# EAGLE library part UWE-* (library LM555-SHAYAN-NOORANI)
UWE-Q12 Series Wide Input, Isolated Eighth-Brick DCDC Converters Datasheet <https://www.mouser.com/datasheet/2/281/uwe_q12-1919447.pdf>
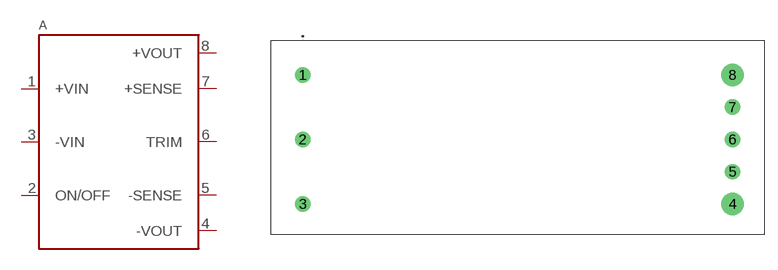
[diagram p43: symbol with the pads of UWE-*; footprint UWE-*]

Designator prefix A

## UWE-12/10-Q12PB-C (DKPN: 811-3061-ND; MANUFACTURER: Murata Power Solutions Inc.; MOPN: 580-UWE-12/10Q12PBC; MPN: UWE-12/10-Q12PB-C)  [UWE-*]
1  +VIN  in
2  ON/OFF  in
3  -VIN  in
4  -VOUT  sup
5  -SENSE  in
6  TRIM  in
7  +SENSE  in
8  +VOUT  sup

## Footprint UWE-* (pad centres in mm)
1/8 Brick footprint as used by UWE-12/10-Q12PB-C converter Datasheet <https://www.mouser.com/datasheet/2/281/uwe-57928.pdf>
drill 1.219: 1 -25.4,7.62; 2 -25.4,0; 3 -25.4,-7.62; 5 25.4,-3.81; 6 25.4,0; 7 25.4,3.81
drill 1.778: 4 25.4,-7.62; 8 25.4,7.62